# EAGLE library part BMP280 (library BMP280)
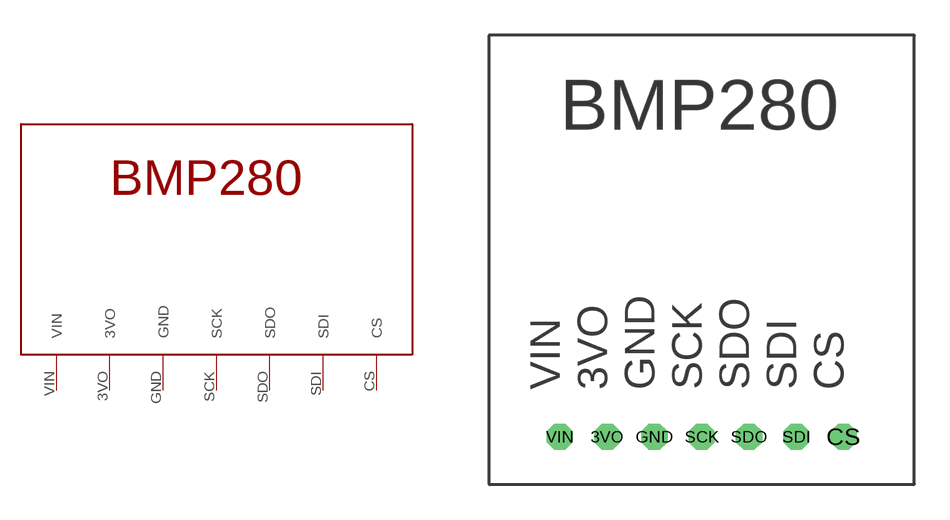
[diagram p0: symbol with the pads of BMP280; footprint BMP280]

Designator prefix -

## BMP280  [BMP280]
3VO  3VO
CS  CS
GND  GND
SCK  SCK
SDI  SDI
SDO  SDO
VIN  VIN

## Footprint BMP280 (pad centres in mm)
drill 0.6 octagon: 3VO 5,2; CS 15,2; GND 7,2; SCK 9,2; SDI 13,2; SDO 11,2; VIN 3,2